# Altium footprint library Marki.PcbLib: 1 footprints
Each footprint in its own frame and in the unit in brackets; x right, y up, seen from the top. Pads: shape width x height; smd on the part's side, far side on the other; paste and mask are expansions set on the pad; w line width, h text height; cw(c..) or ccw(c..) is an arc to the next point about the centre after c.
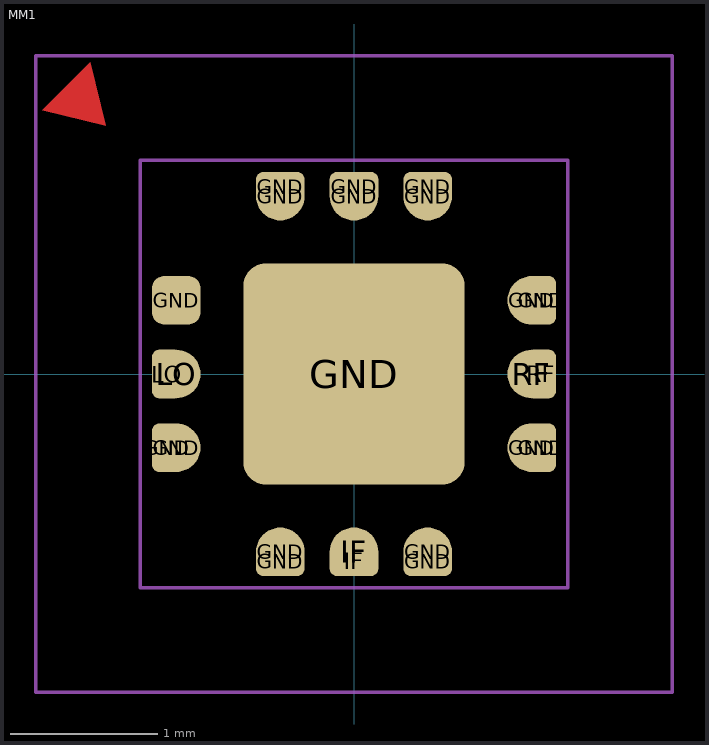
[diagram p0: the footprint, top view; thin cyan lines are the x and y axes]

## MM1 [mil]
pads (24):
  rrect50% 8x13 smd mask+1.5: GND(-50,-19.68) GND(50,-19.68) GND(50,19.69) LO(-50,0) RF(50,0)
  round 13 smd mask+1.5: GND(-47.5,-19.68) GND(-19.69,-47.5) GND(-19.69,47.5) GND(0,47.5) GND(19.68,-47.5) GND(19.68,47.5) GND(47.5,-19.68) GND(47.5,19.69) IF(0,-47.5) LO(-47.5,0) RF(47.5,0)
  rrect50% 13x13 smd mask+1.5: GND(-47.5,19.69)
  rrect50% 13x8 smd mask+1.5: GND(-19.69,-50) GND(-19.69,50) GND(0,50) GND(19.68,-50) GND(19.68,50) IF(0,-50)
  rrect20% 59.06x59.06 smd paste-100 mask+1.5: GND(0,0)
Top Layer:
  region: -66.26,66.26 -70.5,83.23 -83.23,70.51
Top Paste:
  region: 5,27 5,5 27,5 27,27
  region: 27,-5 5,-5 5,-27 27,-27
  region: -5,-27 -5,-5 -27,-5 -27,-27
  rectangle: -27,5 -5,27
Top Designator:
  text ".Designator" at -127.64,-12.5 h35
Top Courtyard:
  lines w1: -85,-85 85,-85 85,85 -85,85 -85,-85
Top Component Outline:
  lines w1: -57.09,-57.09 57.09,-57.09 57.09,57.09 -57.09,57.09 -57.09,-57.09
3D body: height 31.5, standoff 30.5, extent -43.98,32.05 -32.03,44.02
3D body: height 31, standoff 0.1, extent -57.09,-57.09 57.09,57.09